# EAGLE library part PADSIM (library untitled)
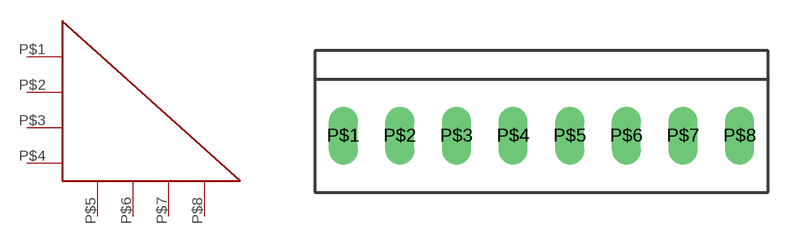
[diagram p0: symbol with the pads of PADSIM; footprint PADSIM]

Designator prefix -

## PADSIM  [PADSIM]
P$1  P$1
P$2  P$2
P$3  P$3
P$4  P$4
P$5  P$5
P$6  P$6
P$7  P$7
P$8  P$8

## Footprint PADSIM (pad centres in mm)
drill 0.8 long: P$1 -11.43,2.54; P$2 -8.89,2.54; P$3 -6.35,2.54; P$4 -3.81,2.54; P$5 -1.27,2.54; P$6 1.27,2.54; P$7 3.81,2.54; P$8 6.35,2.54